# Altium footprint library SMMS0420.PcbLib: 1 footprints
Each footprint in its own frame and in the unit in brackets; x right, y up, seen from the top. Pads: shape width x height; smd on the part's side, far side on the other; paste and mask are expansions set on the pad; w line width, h text height; cw(c..) or ccw(c..) is an arc to the next point about the centre after c.
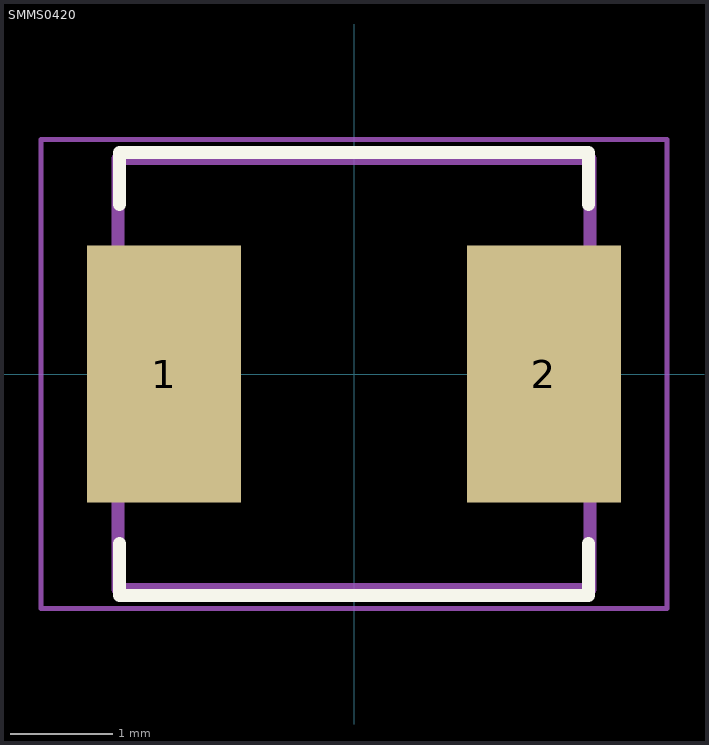
[diagram p0: the footprint, top view; thin cyan lines are the x and y axes]

## SMMS0420 [mm]
pads (2):
  rect 1.5x2.5 smd: 1(-1.85,0) 2(1.85,0)
Top Overlay:
  lines w0.127: -2.286,-1.651 -2.286,-2.159 2.286,-2.159 2.286,-1.651 ; -2.286,1.651 -2.286,2.159 2.286,2.159 2.286,1.651
Top 3D Body:
  lines w0.125: -2.3,-2.1 2.3,-2.1 2.3,2.1 -2.3,2.1 -2.3,-2.1
Top Courtyard:
  lines w0.05: -3.048,-2.286 -3.048,2.286 3.048,2.286 3.048,-2.286 -3.048,-2.286
3D body: height 2, standoff 0, extent -2.3,-2.1 2.3,2.1